# Altium schematic symbol library Capacitor.SchLib: 235 symbols (part 2 of 2)
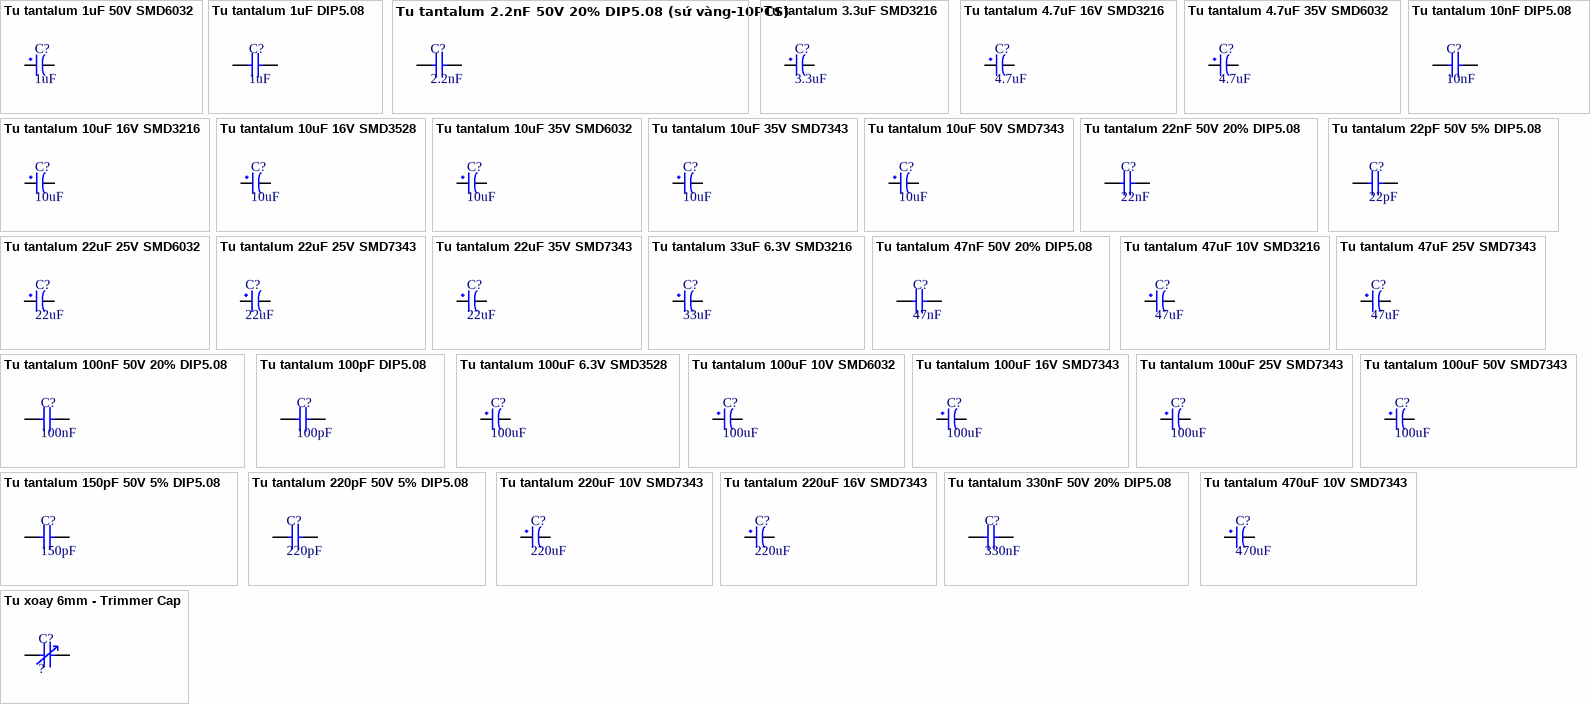
[diagram p6: symbols Tu tantalum 1uF 50V SMD6032 to Tu xoay 6mm - Trimmer Cap]

## Tu tantalum 330nF 50V 20% DIP5.08
designator C?, comment 330nF
Cắm; Don_Vi: Con; So_Chan: 2; Ten_Linh_Kien: Tụ tantalum 334-330nF 50V 20% DIP5.08 (sứ vàng) (10PCS); Ma_Hang: MH003963; Chung_Loai: Cắm; Kieu_Chan: *
footprint Tu tantalum dip5.08
pins: 1, 2

## Tu tantalum 470uF 10V SMD7343
designator C?, comment 470uF
Dán; Don_Vi: Con; So_Chan: 2; Ten_Linh_Kien: Tụ tantalum 477A-470uF 10V SMD7343; Ma_Hang: MH001956; Chung_Loai: Dán; Kieu_Chan: *
footprint tu tantalum smd7343
pins: 1, 2

## Tu xoay 6mm - Trimmer Cap
designator C?, comment ?
Dán; Don_Vi: Con; So_Chan: 2; Ten_Linh_Kien: Tụ 1206 4.7nF 50V NPO; Ma_Hang: MH007538; Chung_Loai: Dán; Kieu_Chan: *
footprint Tu Xoay 6mm - Trimmer Capacitor
pins: 1, 2